# Altium footprint library XBP24CAUIT-001.PcbLib: 2 footprints
Each footprint in its own frame and in the unit in brackets; x right, y up, seen from the top. Pads: shape width x height; smd on the part's side, far side on the other; paste and mask are expansions set on the pad; w line width, h text height; cw(c..) or ccw(c..) is an arc to the next point about the centre after c.
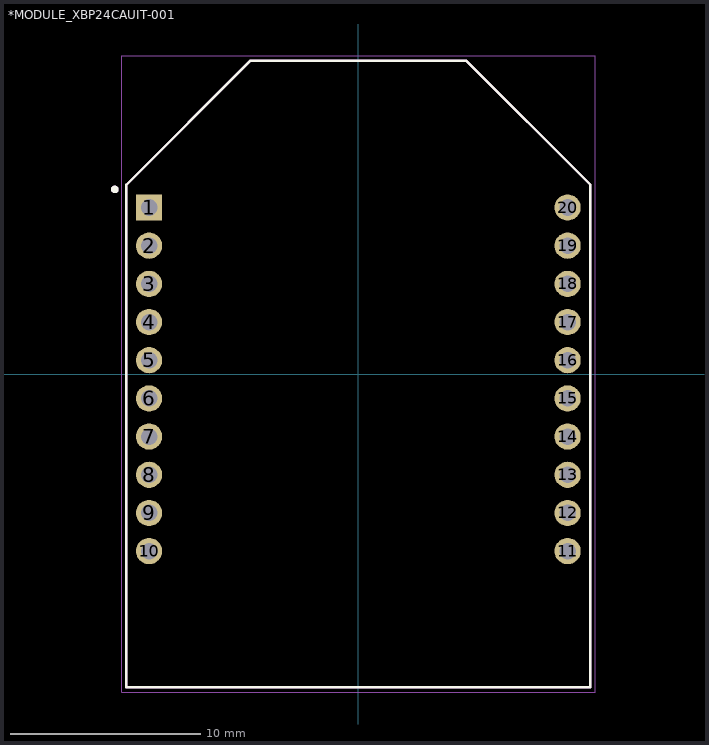
[diagram p0: the footprints below, top view; thin cyan lines are the x and y axes]

## *MODULE_XBP24CAUIT-001 [mil]
pads (20):
  rect 54.25x54.25 hole 34.25: 1(-433,344.5)
  round 54.25 hole 34.25: 2(-433,265.5) 3(-433,186.5) 4(-433,107.5) 5(-433,28.5) 6(-433,-50.5) 7(-433,-129.5) 8(-433,-208.5) 9(-433,-287.5) 10(-433,-366.5) 11(433,-366.5) 12(433,-287.5) 13(433,-208.5) 14(433,-129.5) 15(433,-50.5) 16(433,28.5) 17(433,107.5) 18(433,186.5) 19(433,265.5) 20(433,344.5)
Top Overlay:
  circle w7.87: c-503.94,381.89 r3.94
  lines w5: -480,-648.5 480,-648.5 480,391.5 222.83,648.5 -222.83,648.5 -480,391.5 -480,-648.5
Mechanical 4:
  circle w7.87: c-503.94,381.89 r3.94
  circle w7.87: c-503.94,381.89 r3.94
  lines w5: -480,-648.5 480,-648.5 ; -480,-648.5 -480,391.5 ; -480,-648.5 480,-648.5 ; -480,-648.5 -480,391.5 ; -480,391.5 -222.83,648.5 ; -480,391.5 -222.83,648.5 ; -222.83,648.5 222.83,648.5 ; -222.83,648.5 222.83,648.5 ; 222.83,648.5 480,391.5 ; 222.83,648.5 480,391.5 ; 480,-648.5 480,391.5 ; 480,-648.5 480,391.5
Mechanical 16:
  lines w1.97: -489.84,-658.34 -489.84,658.34 489.84,658.34 489.84,-658.34 -489.84,-658.34

## PCBComponent_1 [mil]